# Altium schematic symbol library LM340AT-5.0_NOPB.SchLib: 1 symbol
Pins are listed as number, name and electrical type; pins without a type are passive.

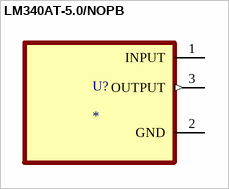
[diagram p0: symbol LM340AT-5.0/NOPB]

## LM340AT-5.0/NOPB
designator U?
MP: LM340AT-5.0/NOPB; MF: {'manufacturer': u'Texas Instruments'}; Package: None; Price: None; Value: *; Availability: Unavailable
footprint TO254P1054X470X1955-3
pins: 1 INPUT (power), 2 GND (power), 3 OUTPUT (out)